# Altium schematic symbol library Copy of OSP_DJB_Rigid.SchLib: 2 symbols
Pins are listed as number, name and electrical type; pins without a type are passive.

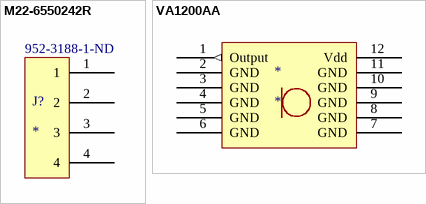
[diagram p0: symbols M22-6550242R to VA1200AA]

## M22-6550242R
designator J?  Supplier Part Number 1: 952-3188-1-ND
4 Position Receptacle Connector 0.079" (2.00mm) Surface Mount, Right Angle Gold; Supplier 1: Digi-Key
footprint M22-6550242R (4 Position Receptacle Connector 0.079" (2.00mm) Surface Mount, Right Angle Gold)
pins: 1, 2, 3, 4

## VA1200AA
designator *
pins: 1 Output (out), 2 GND (power), 3 GND (power), 4 GND (power), 5 GND (power), 6 GND (power), 7 GND (power), 8 GND (power), 9 GND (power), 10 GND (power), 11 GND (power), 12 Vdd (power)